# Altium footprint library S1-CM-V3.41.PcbLib: 63 footprints (part 1 of 4)
Each footprint in its own frame and in the unit in brackets; x right, y up, seen from the top. Pads: shape width x height; smd on the part's side, far side on the other; paste and mask are expansions set on the pad; w line width, h text height; cw(c..) or ccw(c..) is an arc to the next point about the centre after c.
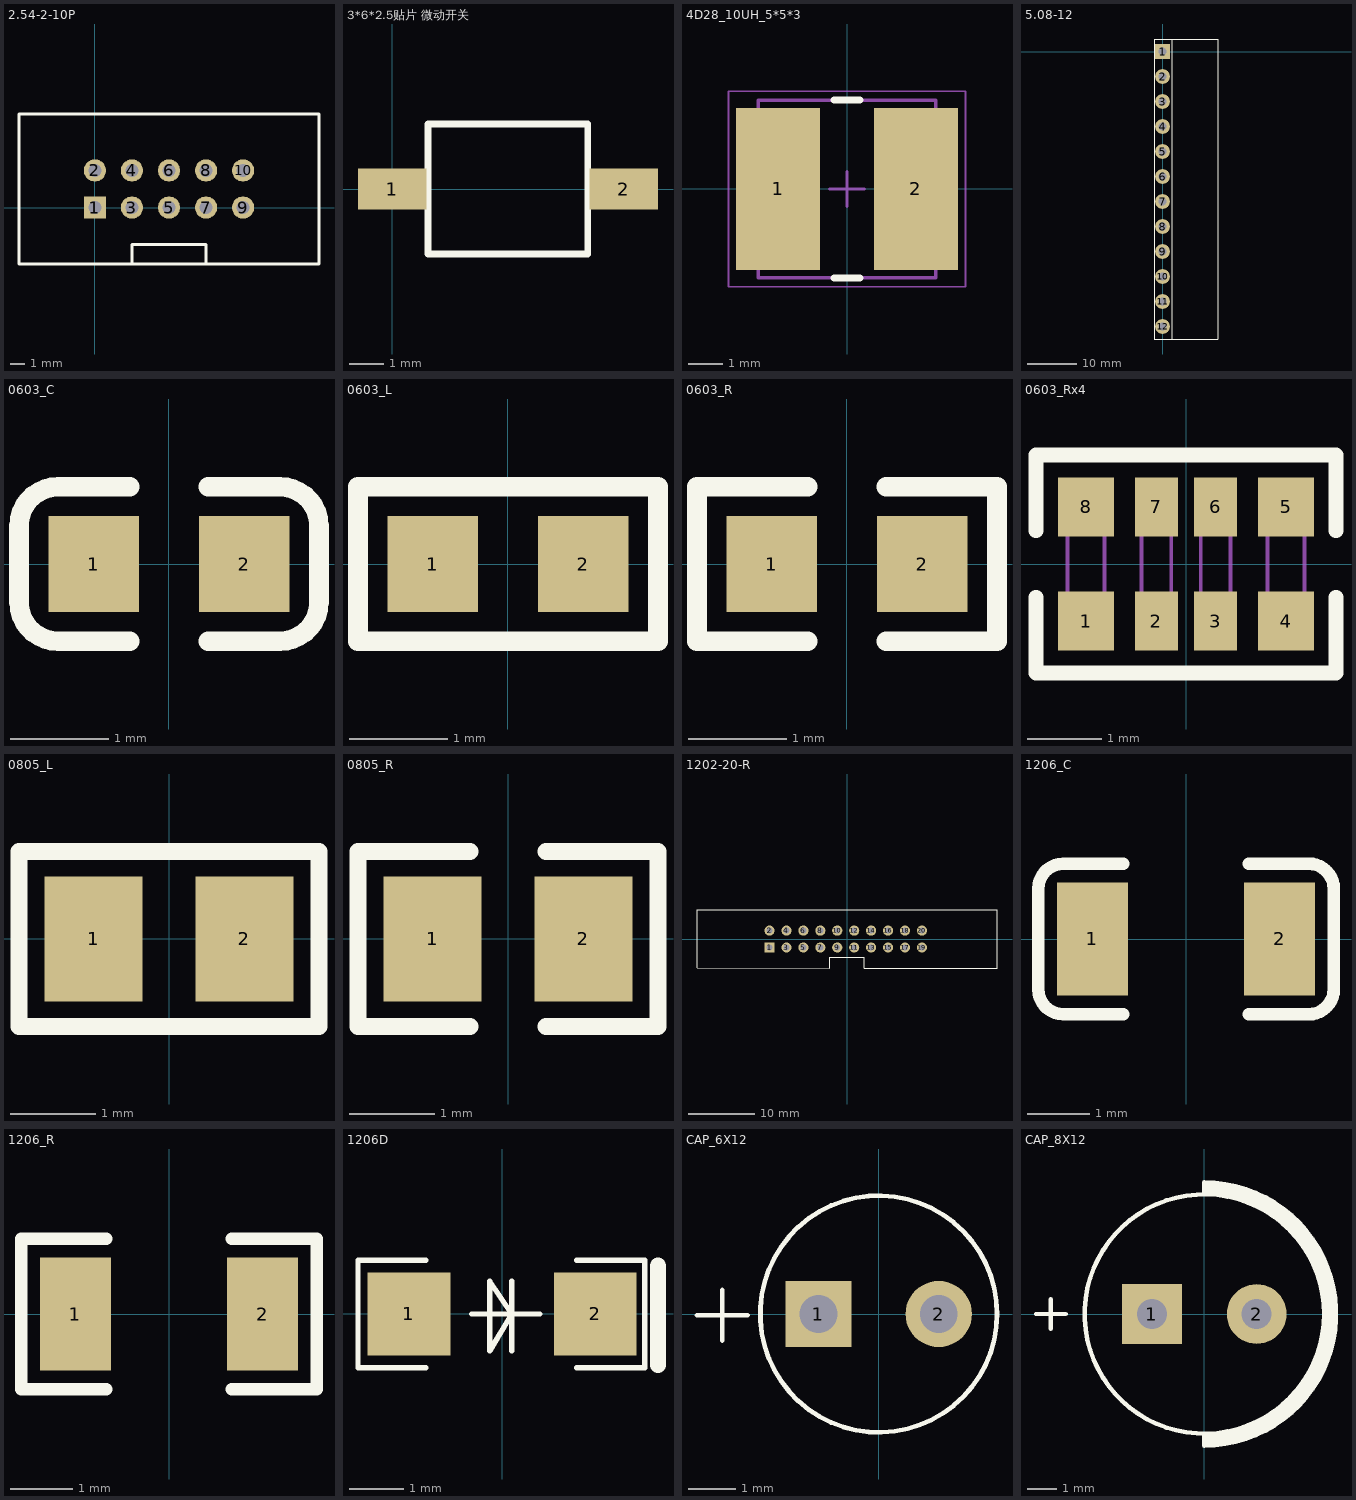
[diagram p0: the footprints below, top view; thin cyan lines are the x and y axes]

## 2.54-2-10P [mil]
pads (10):
  rect 60x60 hole 35: 1(0,0)
  round 60 hole 35: 2(0,100) 3(100,0) 4(100,100) 5(200,0) 6(200,100) 7(300,0) 8(300,100) 9(400,0) 10(400,100)
Top Overlay:
  lines w7.87: 100,-150 100,-100 300,-100 300,-150 ; -205,-153 -205,253 605,253 605,-153 -205,-153

## 3*6*2.5贴片 微动开关 [mm]
pads (2):
  rect 2x1.2 smd mask+0.05: 1(0,0) 2(6.75,0)
Top Overlay:
  lines w0.2: 1.041,-1.9 5.7,-1.9 5.7,1.9 1.041,1.9 1.041,-1.9

## 4D28_10UH_5*5*3 [mm]
pads (2):
  rect 2.4x4.65 smd: 1(-1.975,0) 2(1.975,0)
Top Overlay:
  lines w0.2: -0.375,-2.55 0.375,-2.55 ; -0.375,2.55 0.375,2.55
Mechanical 13:
  lines w0.1: -2.55,-2.55 2.55,-2.55 2.55,2.55 -2.55,2.55 -2.55,-2.55
Mechanical 15:
  lines w0.05: -3.4,-2.8 3.4,-2.8 3.4,2.8 -3.4,2.8 -3.4,-2.8
  lines w0.1: -0.5,0 0.5,0 ; 0,-0.5 0,0.5
3D body: height 3.2, standoff 0, extent -2.55,-2.55 2.55,2.55

## 5.08-12 [mm] "5.08弯针"
height 9.45
pads (12):
  rect 3x3 hole 1.6: 1(0,0)
  round 3 hole 1.6: 2(0,-5.08) 3(0,-10.16) 4(0,-15.24) 5(0,-20.32) 6(0,-25.4) 7(0,-30.48) 8(0,-35.56) 9(0,-40.64) 10(0,-45.72) 11(0,-50.8) 12(0,-55.88)
Top Overlay:
  lines w0.2: 1.905,-58.42 1.905,2.54 ; 8.87,2.54 11.176,2.54 11.176,-58.42 -1.651,-58.42 -1.651,2.54 9.271,2.54
3D body: height 8.4, standoff 0, extent -1.751,-58.52 11.276,2.64

## 0603_C [mm]
pads (2):
  rect 0.93x0.98 smd: 1(-0.77,0) 2(0.77,0)
Top Overlay:
  lines w0.2: -0.4,-0.79 -1.135,-0.79 cw(c-1.135,-0.39) -1.535,-0.39 -1.535,0.39 cw(c-1.135,0.39) -1.135,0.79 -0.4,0.79 ; 0.4,-0.79 1.135,-0.79 ccw(c1.135,-0.39) 1.535,-0.39 1.535,0.39 ccw(c1.135,0.39) 1.135,0.79 0.4,0.79
3D body: height 0.3, standoff 0, extent -0.8,-0.4 0.8,0.4

## 0603_L [mm]
height 0.003
pads (2):
  rect 0.93x0.98 smd: 1(-0.77,0) 2(0.77,0)
Top Overlay:
  lines w0.2: -1.535,-0.79 1.535,-0.79 1.535,0.79 -1.535,0.79 -1.535,-0.79
3D body: height 0.46, standoff -0.01, extent -0.825,-0.412 0.825,0.413

## 0603_R [mm]
height 4.1
pads (2):
  rect 0.93x0.98 smd: 1(-0.77,0) 2(0.77,0)
Top Overlay:
  lines w0.2: -0.4,-0.79 -1.535,-0.79 -1.535,0.79 -0.4,0.79 ; 0.4,-0.79 1.535,-0.79 1.535,0.79 0.4,0.79
3D body: height 0.56, standoff 0, extent -0.85,-0.4 0.85,0.4

## 0603_Rx4 [mm]
pads (8):
  rect 0.75x0.8 smd mask+0.051: 1(-1.35,-0.77) 4(1.35,-0.77) 5(1.35,0.77) 8(-1.35,0.77)
  rect 0.58x0.8 smd mask+0.051: 2(-0.4,-0.77) 3(0.4,-0.77) 6(0.4,0.77) 7(-0.4,0.77)
Top Overlay:
  lines w0.2: -2.025,-0.45 -2.025,-1.47 2.025,-1.47 2.025,-0.45 ; -2.025,0.45 -2.025,1.47 2.025,1.47 2.025,0.45
Mechanical 13:
  lines w0.05: -1.6,-0.8 -1.6,0.8 -1.1,0.8 -1.1,-0.8 -1.6,-0.8 ; -0.6,-0.8 -0.6,0.8 -0.2,0.8 -0.2,-0.8 -0.6,-0.8 ; 0.2,-0.8 0.2,0.8 0.6,0.8 0.6,-0.8 0.2,-0.8 ; 1.1,-0.8 1.1,0.8 1.6,0.8 1.6,-0.8 1.1,-0.8
3D body: height 0.55, standoff 0, extent -1.6,-0.8 1.6,0.8

## 0805_L [mm]
pads (2):
  rect 1.16x1.47 smd: 1(-0.89,0) 2(0.89,0)
Top Overlay:
  lines w0.2: -1.77,-1.035 1.77,-1.035 1.77,1.035 -1.77,1.035 -1.77,-1.035
3D body: height 0.6, standoff -0.02, extent -0.998,-0.637 1.005,0.637

## 0805_R [mm]
height 1.7
pads (2):
  rect 1.16x1.47 smd: 1(-0.89,0) 2(0.89,0)
Top Overlay:
  lines w0.2: -0.45,-1.035 -1.77,-1.035 -1.77,1.035 -0.45,1.035 ; 0.45,-1.035 1.77,-1.035 1.77,1.035 0.45,1.035
3D body: height 0.49, standoff -0.01, extent -0.997,-0.625 1.003,0.625

## 1202-20-R [mil]
pads (20):
  rect 60x60 / inner round 60 / far side rect 60x60 hole 35: 1(-457.48,-50)
  round 60 hole 35: 2(-457.48,50) 3(-357.48,-50) 4(-357.48,50) 5(-257.48,-50) 6(-257.48,50) 7(-157.48,-50) 8(-157.48,50) 9(-57.48,-50) 10(-57.48,50) 11(42.52,-50) 12(42.52,50) 13(142.52,-50) 14(142.52,50) 15(242.52,-50) 16(242.52,50) 17(342.52,-50) 18(342.52,50) 19(442.52,-50) 20(442.52,50)
Top Overlay:
  lines w6: 885.83,-170.89 102.59,-170.89 102.59,-107.89 -101.9,-107.89 -101.9,-170.89 -885.83,-170.89 -885.83,171.63 885.83,171.63 885.83,-169.94

## 1206_C [mm]
pads (2):
  rect 1.13x1.8 smd: 1(-1.49,0) 2(1.49,0)
Top Overlay:
  lines w0.2: -1,-1.2 -1.955,-1.2 cw(c-1.955,-0.8) -2.355,-0.8 -2.355,0.8 cw(c-1.955,0.8) -1.955,1.2 -1,1.2 ; 1,-1.2 1.955,-1.2 ccw(c1.955,-0.8) 2.355,-0.8 2.355,0.8 ccw(c1.955,0.8) 1.955,1.2 1,1.2
3D body: height 1, standoff 0, extent -1.602,-0.813 1.598,0.787

## 1206_R [mm]
pads (2):
  rect 1.13x1.8 smd: 1(-1.49,0) 2(1.49,0)
Top Overlay:
  lines w0.2: -1,-1.2 -2.355,-1.2 -2.355,1.2 -1,1.2 ; 1,-1.2 2.355,-1.2 2.355,1.2 1,1.2
3D body: height 0.85, standoff 0, extent -1.7,-0.864 1.65,0.866

## 1206D [mil]
pads (2):
  rect 60x60 smd: 1(-67.5,0) 2(67.5,0)
Top Overlay:
  lines w3.94: -55.12,-38.88 -104.33,-38.88 -104.33,38.88 -55.12,38.88 ; -22,0 27.21,0 ; 7,-26.57 7,23.62 ; 54.13,-38.88 103.35,-38.88 103.35,38.88 54.13,38.88 ; -8.75,-26.57 -8.75,23.62 7,0 -8.75,-26.57
  lines w11.81: 113,-37 113,35

## CAP_6X12 [mm] "间距2.5mm 外径6mm高度12mm，100uF 35V"
height 11
pads (2):
  rect 1.4x1.4 hole 0.8: 1(-1.27,0)
  round 1.4 hole 0.8: 2(1.27,0)
Top Overlay:
  circle w0.1: c0,0 r2.5
  lines w0.1: -3.835,-0.025 -2.769,-0.025 ; -3.302,-0.559 -3.302,0.508
3D body: height 12, standoff 0, extent -2.512,-2.512 2.512,2.512

## CAP_8X12 [mil] "直插铝电解电容"
pads (2):
  rect 80x80 hole 40: 1(-70,0)
  round 80 hole 40: 2(70,0)
Top Overlay:
  circle w6: c0,0 r160
  lines w6: -225,0 -185,0 ; -205,-20 -205,20 ; 0,-172 ccw(c0,0) 0,172 ; 0,-168 ccw(c0,0) 0,168 ; 0,-164 ccw(c0,0) 0,164 ; 0,-160 0,-176 ccw(c0,0) 0,176 0,160
3D body: height 472.44, standoff 0, extent -160.51,-160.51 159.89,161.27